# Altium footprint library L32.PcbLib: 15 footprints
Each footprint in its own frame and in the unit in brackets; x right, y up, seen from the top. Pads: shape width x height; smd on the part's side, far side on the other; paste and mask are expansions set on the pad; w line width, h text height; cw(c..) or ccw(c..) is an arc to the next point about the centre after c.
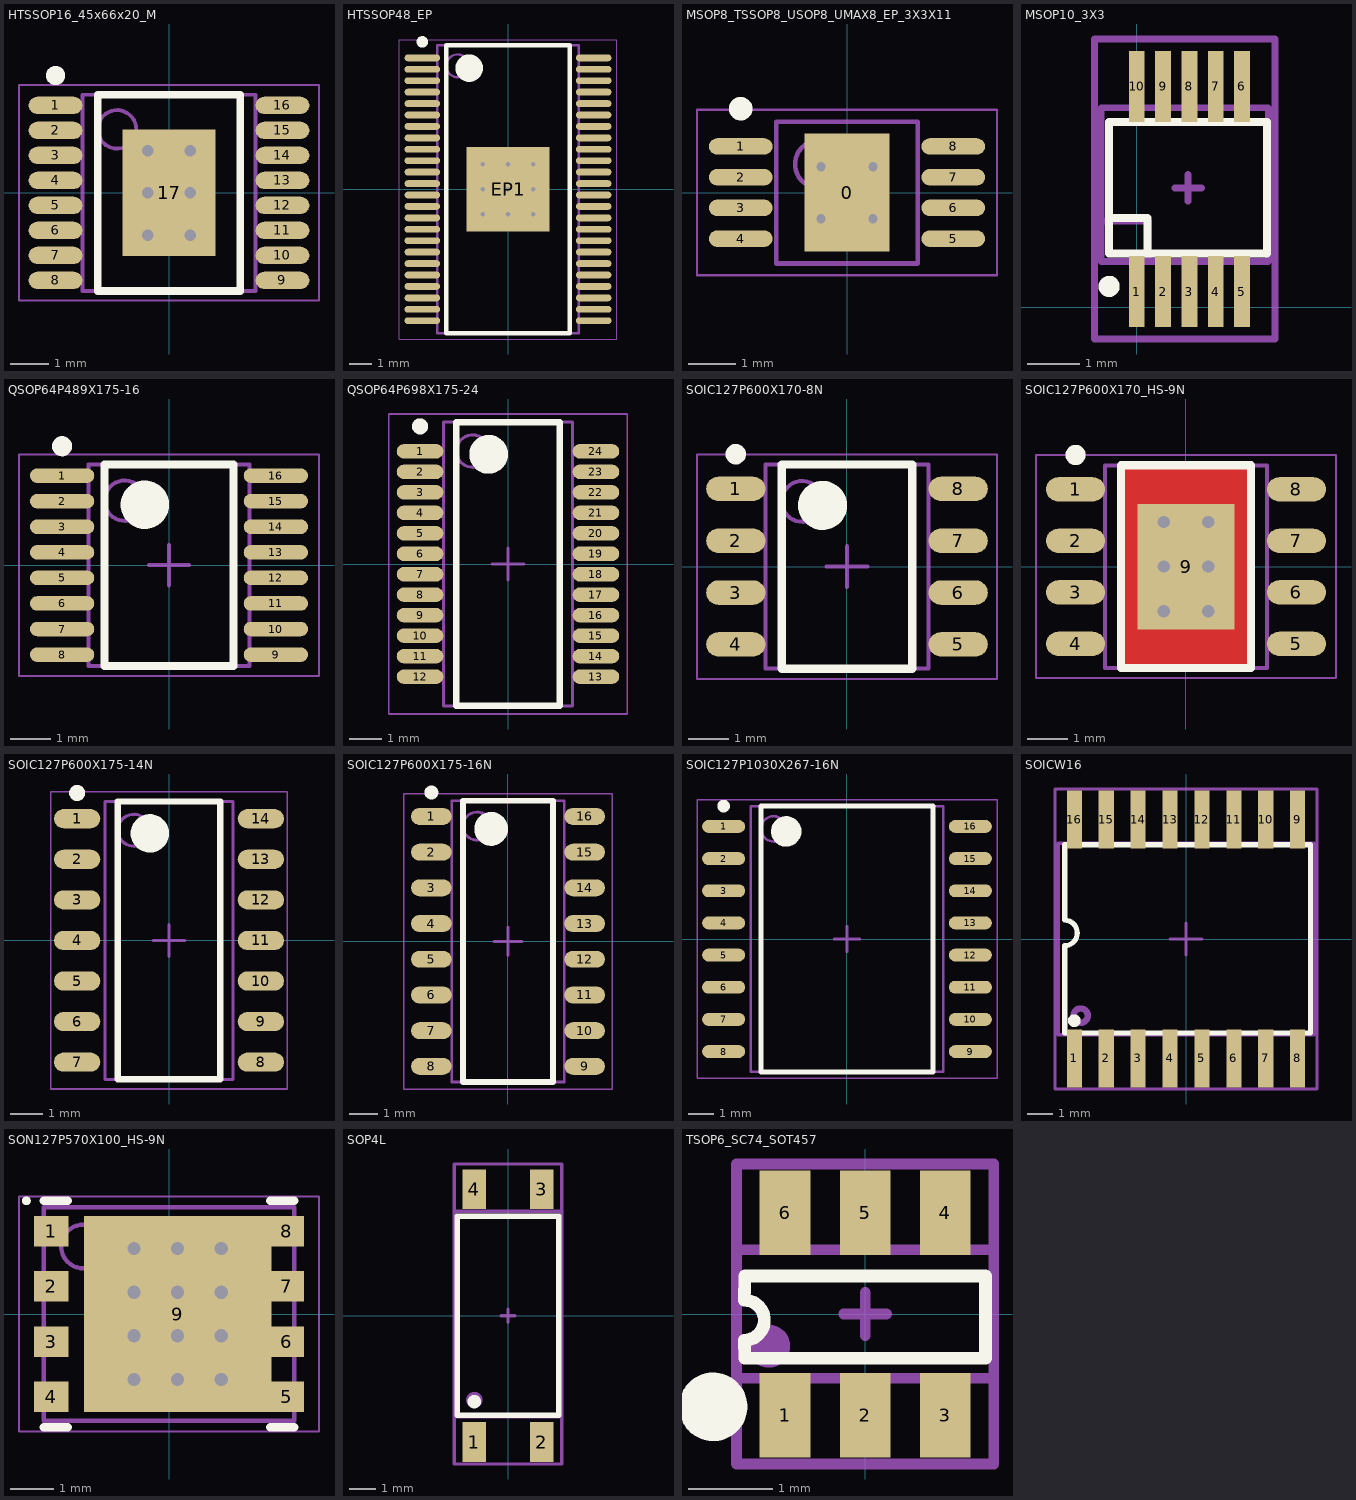
[diagram p0: the footprints below, top view; thin cyan lines are the x and y axes]

## HTSSOP16_45x66x20_M [mm] "TSOP, 16-Leads, Body 5,00x4,40mm, Pitch 0,65mm, Thermal Pad 3,29x2,41mm, IPC Medium Density"
height 1.2
pads (17):
  oval 1.4x0.45 smd: 1(-2.95,2.275) 2(-2.95,1.625) 3(-2.95,0.975) 4(-2.95,0.325) 5(-2.95,-0.325) 6(-2.95,-0.975) 7(-2.95,-1.625) 8(-2.95,-2.275) 9(2.95,-2.275) 10(2.95,-1.625) 11(2.95,-0.975) 12(2.95,-0.325) 13(2.95,0.325) 14(2.95,0.975) 15(2.95,1.625) 16(2.95,2.275)
  rect 2.41x3.29 smd: 17(0,0)
via 0.55,-1.1 diameter 0.8 hole 0.3
via -0.55,-1.1 diameter 0.8 hole 0.3
via 0.55,0 diameter 0.8 hole 0.3
via -0.55,0 diameter 0.8 hole 0.3
via 0.55,1.1 diameter 0.8 hole 0.3
via -0.55,1.1 diameter 0.8 hole 0.3
Top Overlay:
  circle w0.25: c-2.95,3.05 r0.125
  lines w0.2: -1.85,-2.55 1.85,-2.55 1.85,2.55 -1.85,2.55 -1.85,-2.55
Mechanical 13:
  circle w0.1: c-1.35,1.65 r0.5
  lines w0.1: -2.25,-2.55 2.25,-2.55 2.25,2.55 -2.25,2.55 -2.25,-2.55
Mechanical 15:
  lines w0.05: -3.9,-2.8 3.9,-2.8 3.9,2.8 -3.9,2.8 -3.9,-2.8
  lines w0.1: -0.5,0 0.5,0 ; 0,-0.5 0,0.5
Mechanical 17:
  text "'.Designator'" at -1.143,-0.254 h0.64
Mechanical 19:
  text "'.Comment'" at -1.016,-0.254 h0.64
3D body "TSSOP65P640X120-16N.STEP": height 1.2, standoff 0, extent -3.275,-2.583 3.225,2.517

## HTSSOP48_EP [mm] "TSSOP, 48-Leads, Body 12.50x6.10mm, Pitch 0.50mm, Thermal Pad 3.70x3.65mm, IPC Medium Density"
height 1.2
pads (49):
  oval 1.55x0.3 smd: 1(-3.75,5.75) 2(-3.75,5.25) 3(-3.75,4.75) 4(-3.75,4.25) 5(-3.75,3.75) 6(-3.75,3.25) 7(-3.75,2.75) 8(-3.75,2.25) 9(-3.75,1.75) 10(-3.75,1.25) 11(-3.75,0.75) 12(-3.75,0.25) 13(-3.75,-0.25) 14(-3.75,-0.75) 15(-3.75,-1.25) 16(-3.75,-1.75) 17(-3.75,-2.25) 18(-3.75,-2.75) 19(-3.75,-3.25) 20(-3.75,-3.75) 21(-3.75,-4.25) 22(-3.75,-4.75) 23(-3.75,-5.25) 24(-3.75,-5.75) 25(3.75,-5.75) 26(3.75,-5.25) 27(3.75,-4.75) 28(3.75,-4.25) 29(3.75,-3.75) 30(3.75,-3.25) 31(3.75,-2.75) 32(3.75,-2.25) 33(3.75,-1.75) 34(3.75,-1.25) 35(3.75,-0.75) 36(3.75,-0.25) 37(3.75,0.25) 38(3.75,0.75) 39(3.75,1.25) 40(3.75,1.75) 41(3.75,2.25) 42(3.75,2.75) 43(3.75,3.25) 44(3.75,3.75) 45(3.75,4.25) 46(3.75,4.75) 47(3.75,5.25) 48(3.75,5.75)
  rect 3.65x3.7 smd: EP1(0,0)
via 1.1,-1.1 diameter 0.5 hole 0.2
via 0,-1.1 diameter 0.5 hole 0.2
via -1.1,-1.1 diameter 0.5 hole 0.2
via 1.1,0 diameter 0.5 hole 0.2
via 0,0 diameter 0.5 hole 0.2
via -1.1,0 diameter 0.5 hole 0.2
via 1.1,1.1 diameter 0.5 hole 0.2
via 0,1.1 diameter 0.5 hole 0.2
via -1.1,1.1 diameter 0.5 hole 0.2
Top Overlay:
  circle w0.6: c-1.7,5.3 r0.3
  circle w0.25: c-3.75,6.45 r0.125
  lines w0.2: -2.7,-6.3 2.7,-6.3 2.7,6.3 -2.7,6.3 -2.7,-6.3
Mechanical 13:
  circle w0.1: c-2.2,5.4 r0.5
  lines w0.1: -3.1,-6.3 3.1,-6.3 3.1,6.3 -3.1,6.3 -3.1,-6.3
Mechanical 15:
  lines w0.05: -4.75,-6.55 4.75,-6.55 4.75,6.55 -4.75,6.55 -4.75,-6.55
  lines w0.1: -0.5,0 0.5,0 ; 0,-0.5 0,0.5
Mechanical 17:
  text "'.Designator'" at -0.508,4.826 h0.64
Mechanical 19:
  text "'.Comment'" at -0.508,4.826 h0.64
3D body "TSSOP50P810X120_HS-49N.step": height 1.2, standoff 0, extent -4.05,-6.3 4.05,6.3

## MSOP8_TSSOP8_USOP8_UMAX8_EP_3X3X11 [mm]
height 1
pads (9):
  rect 1.8x2.5 smd: 0(0,0)
  oval 1.35x0.35 smd: 1(-2.25,0.975) 2(-2.25,0.325) 3(-2.25,-0.325) 4(-2.25,-0.975) 5(2.25,-0.975) 6(2.25,-0.325) 7(2.25,0.325) 8(2.25,0.975)
via 0.55,-0.55 diameter 0.5 hole 0.2
via -0.55,-0.55 diameter 0.5 hole 0.2
via 0.55,0.55 diameter 0.5 hole 0.2
via -0.55,0.55 diameter 0.5 hole 0.2
Top Overlay:
  circle w0.25: c-2.25,1.775 r0.125
Mechanical 13:
  circle w0.1: c-0.6,0.6 r0.5
  lines w0.1: -1.5,-1.5 1.5,-1.5 1.5,1.5 -1.5,1.5 -1.5,-1.5
Mechanical 15:
  lines w0.05: -3.175,-1.75 3.175,-1.75 3.175,1.75 -3.175,1.75 -3.175,-1.75
  lines w0.1: -0.5,0 0.5,0 ; 0,-0.5 0,0.5
Mechanical 17:
  text "'.Designator'" at -2.667,0.508 h0.64
Mechanical 19:
  text "'.Comment'" at -2.667,0.508 h0.64
3D body: height 1, standoff 1, extent -1.5,-1.5 1.5,1.5
3D body "SW3dPS-uMAX8.STEP": height 0.95, standoff 0, extent -2.5,-1.476 2.5,1.524

## MSOP10_3X3 [mm]
pads (10):
  rect 0.3x1.35 smd: 1(0,0.3) 2(0.5,0.3) 3(1,0.3) 4(1.5,0.3) 5(2,0.3) 6(2,4.2) 7(1.5,4.2) 8(1,4.2) 9(0.5,4.2) 10(0,4.2)
Top Overlay:
  circle w0.2: c-0.525,0.4 r0.1
  lines w0.152: -0.525,1.7 0.2,1.7 0.2,1.025 ; -0.525,1.025 -0.525,3.525 -0.2,3.525 2.475,3.525 2.475,1.025 -0.525,1.025
Mechanical 13:
  lines w0.127: -0.676,1.635 0.213,1.635 0.213,0.873 ; -0.676,0.873 2.499,0.873 2.499,3.794 -0.549,3.794 -0.676,3.794 -0.676,0.873
Mechanical 15:
  lines w0.127: 0.721,2.27 1.229,2.27 ; 0.975,2.016 0.975,2.524 ; -0.803,-0.6 -0.803,5.1 2.626,5.1 2.626,-0.6 -0.803,-0.6
Mechanical 17:
  text "'.Designator'" at -0.803,1.889 h0.51
Mechanical 19:
  text "'.Comment'" at -0.803,1.889 h0.51
3D body "User Library-msop-10.step": height 1.14, standoff -0.01, extent -0.499,-0.185 2.501,4.715

## QSOP64P489X175-16 [mm] "SOP, 16-Leads, Body 4.89x3.90mm, Pitch 0.64mm, IPC Medium Density"
height 1.75
pads (16):
  oval 1.6x0.36 smd mask+0.05: 1(-2.655,2.222) 2(-2.655,1.587) 3(-2.655,0.953) 4(-2.655,0.318) 5(-2.655,-0.318) 6(-2.655,-0.953) 7(-2.655,-1.587) 8(-2.655,-2.222) 9(2.655,-2.222) 10(2.655,-1.587) 11(2.655,-0.953) 12(2.655,-0.318) 13(2.655,0.318) 14(2.655,0.953) 15(2.655,1.587) 16(2.655,2.222)
Top Overlay:
  circle w0.6: c-0.6,1.5 r0.3
  circle w0.25: c-2.655,2.953 r0.125
  lines w0.2: -1.6,-2.5 1.6,-2.5 1.6,2.5 -1.6,2.5 -1.6,-2.5
Mechanical 13:
  circle w0.1: c-1.1,1.6 r0.5
  lines w0.1: -2,-2.5 2,-2.5 2,2.5 -2,2.5 -2,-2.5
Mechanical 15:
  lines w0.05: -3.725,-2.75 3.725,-2.75 3.725,2.75 -3.725,2.75 -3.725,-2.75
  lines w0.1: -0.5,0 0.5,0 ; 0,-0.5 0,0.5
Mechanical 17:
  text "'.Designator'" at -0.127,2.032 h0.35
3D body "QSOP16.step": height 1.75, standoff 0, extent -3.01,-2.5 3.01,2.5

## QSOP64P698X175-24 [mm] "QSOP24 0.64mm pitch"
height 1.75
pads (24):
  oval 1.45x0.45 smd mask+0.05: 1(-2.725,3.492) 2(-2.725,2.857) 3(-2.725,2.222) 4(-2.725,1.587) 5(-2.725,0.953) 6(-2.725,0.318) 7(-2.725,-0.318) 8(-2.725,-0.953) 9(-2.725,-1.587) 10(-2.725,-2.222) 11(-2.725,-2.857) 12(-2.725,-3.492) 13(2.725,-3.492) 14(2.725,-2.857) 15(2.725,-2.222) 16(2.725,-1.587) 17(2.725,-0.953) 18(2.725,-0.318) 19(2.725,0.318) 20(2.725,0.953) 21(2.725,1.587) 22(2.725,2.222) 23(2.725,2.857) 24(2.725,3.492)
Top Overlay:
  circle w0.6: c-0.6,3.4 r0.3
  circle w0.25: c-2.725,4.267 r0.125
  lines w0.2: -1.6,-4.4 1.6,-4.4 1.6,4.4 -1.6,4.4 -1.6,-4.4
Mechanical 13:
  circle w0.1: c-1.1,3.5 r0.5
  lines w0.1: -2,-4.4 2,-4.4 2,4.4 -2,4.4 -2,-4.4
Mechanical 15:
  lines w0.05: -3.7,-4.65 3.7,-4.65 3.7,4.65 -3.7,4.65 -3.7,-4.65
  lines w0.1: -0.5,0 0.5,0 ; 0,-0.5 0,0.5
Mechanical 17:
  text "'.Designator'" at -2.2,-0.9 h0.64
Mechanical 19:
  text "'.Comment'" at -2.2,-0.9 h0.64
3D body "qsop24.stp": height 1.73, standoff 0, extent -3.095,-4.375 3.095,4.375

## SOIC127P600X170-8N [mm] "SOIC, 8-Leads, Body 4.90x3.90mm, Pitch 1.27mm, IPC Medium Density"
height 1.7
pads (8):
  oval 1.45x0.6 smd: 1(-2.725,1.905) 2(-2.725,0.635) 3(-2.725,-0.635) 4(-2.725,-1.905) 5(2.725,-1.905) 6(2.725,-0.635) 7(2.725,0.635) 8(2.725,1.905)
Top Overlay:
  circle w0.6: c-0.6,1.5 r0.3
  circle w0.25: c-2.725,2.755 r0.125
  lines w0.2: -1.6,-2.5 1.6,-2.5 1.6,2.5 -1.6,2.5 -1.6,-2.5
Mechanical 2:
  circle w0.1: c-1.1,1.6 r0.5
  lines w0.1: -2,-2.5 -2,2.5 2,2.5 2,-2.5 -2,-2.5
Mechanical 4:
  lines w0.05: -3.675,-2.75 -3.675,2.75 3.675,2.75 3.675,-2.75 -3.675,-2.75
  lines w0.1: -0.5,0 0.5,0 ; 0,-0.5 0,0.5
3D body "SOIC127P600X170-8N.step": height 1.7, standoff 0, extent -3,-2.5 3,2.5

## SOIC127P600X170_HS-9N [mm] "SOIC, 8-Leads, Body 4.90x3.90mm, Pitch 1.27mm, Thermal Pad 3.10x2.40mm, IPC Medium Density"
height 1.7
pads (9):
  oval 1.45x0.6 smd: 1(-2.725,1.905) 2(-2.725,0.635) 3(-2.725,-0.635) 4(-2.725,-1.905) 5(2.725,-1.905) 6(2.725,-0.635) 7(2.725,0.635) 8(2.725,1.905)
  rect 2.4x3.1 smd: 9(0,0)
via 0.55,-1.1 diameter 0.6 hole 0.3
via -0.55,-1.1 diameter 0.6 hole 0.3
via 0.55,0 diameter 0.6 hole 0.3
via -0.55,0 diameter 0.6 hole 0.3
via 0.55,1.1 diameter 0.6 hole 0.3
via -0.55,1.1 diameter 0.6 hole 0.3
Top Layer:
  rectangle: -1.651,-2.54 1.524,2.54
Top Overlay:
  circle w0.25: c-2.725,2.755 r0.125
  lines w0.2: -1.6,-2.5 1.6,-2.5 1.6,2.5 -1.6,2.5 -1.6,-2.5
Mechanical 2:
  circle w0.1: c-1.1,1.6 r0.5
  lines w0.1: -2,-2.5 2,-2.5 2,2.5 -2,2.5 -2,-2.5
Mechanical 4:
  lines w0.05: -3.7,-2.75 3.7,-2.75 3.7,2.75 -3.7,2.75 -3.7,-2.75
  lines w0.1: -0.5,0 0.5,0 ; 0,-0.5 0,0.5
3D body "SOIC127P600X170_HS-9N.step": height 1.7, standoff 0, extent -3,-2.5 3,2.5

## SOIC127P600X175-14N [mm] "SOIC, 14-Leads, Body 8.61x3.90mm, Pitch 1.27mm, IPC Medium Density"
height 1.75
pads (14):
  oval 1.45x0.6 smd: 1(-2.875,3.81) 2(-2.875,2.54) 3(-2.875,1.27) 4(-2.875,0) 5(-2.875,-1.27) 6(-2.875,-2.54) 7(-2.875,-3.81) 8(2.875,-3.81) 9(2.875,-2.54) 10(2.875,-1.27) 11(2.875,0) 12(2.875,1.27) 13(2.875,2.54) 14(2.875,3.81)
Top Overlay:
  circle w0.6: c-0.6,3.35 r0.3
  circle w0.25: c-2.875,4.615 r0.125
  lines w0.2: -1.6,-4.35 1.6,-4.35 1.6,4.35 -1.6,4.35 -1.6,-4.35
Mechanical 13:
  circle w0.1: c-1.1,3.45 r0.5
  lines w0.1: -2,-4.35 2,-4.35 2,4.35 -2,4.35 -2,-4.35
Mechanical 15:
  lines w0.05: -3.7,-4.65 3.7,-4.65 3.7,4.65 -3.7,4.65 -3.7,-4.65
  lines w0.1: -0.5,0 0.5,0 ; 0,-0.5 0,0.5
3D body "SOIC127P600X175-14N.step": height 1.75, standoff 0, extent -3,-4.35 3,4.35

## SOIC127P600X175-16N [mm] "SOIC, 16-Leads, Body 9.90x3.90mm, Pitch 1.27mm, IPC Medium Density"
height 1.75
pads (16):
  oval 1.45x0.6 smd: 1(-2.725,4.445) 2(-2.725,3.175) 3(-2.725,1.905) 4(-2.725,0.635) 5(-2.725,-0.635) 6(-2.725,-1.905) 7(-2.725,-3.175) 8(-2.725,-4.445) 9(2.725,-4.445) 10(2.725,-3.175) 11(2.725,-1.905) 12(2.725,-0.635) 13(2.725,0.635) 14(2.725,1.905) 15(2.725,3.175) 16(2.725,4.445)
Top Overlay:
  circle w0.25: c-2.725,5.295 r0.125
  circle w0.6: c-0.6,4 r0.3
  lines w0.2: -1.6,-5 -1.6,5 1.6,5 1.6,-5 -1.6,-5
Mechanical 13:
  circle w0.1: c-1.1,4.1 r0.5
  lines w0.1: -2,-5 -2,5 2,5 2,-5 -2,-5
Mechanical 15:
  lines w0.05: -3.7,-5.25 -3.7,5.25 3.7,5.25 3.7,-5.25 -3.7,-5.25
  lines w0.1: -0.5,0 0.5,0 ; 0,-0.5 0,0.5
3D body "SOIC127P600X175-16N.step": height 1.75, standoff 0, extent -3,-5 3,5

## SOIC127P1030X267-16N [mm] "SOIC, 16-Leads, Body 10.29x7.51mm, Pitch 1.27mm, IPC Medium Density"
height 2.67
pads (16):
  oval 1.7x0.51 smd: 1(-4.875,4.445) 2(-4.875,3.175) 3(-4.875,1.905) 4(-4.875,0.635) 5(-4.875,-0.635) 6(-4.875,-1.905) 7(-4.875,-3.175) 8(-4.875,-4.445) 9(4.875,-4.445) 10(4.875,-3.175) 11(4.875,-1.905) 12(4.875,-0.635) 13(4.875,0.635) 14(4.875,1.905) 15(4.875,3.175) 16(4.875,4.445)
Top Overlay:
  circle w0.25: c-4.875,5.25 r0.125
  circle w0.6: c-2.4,4.25 r0.3
  lines w0.2: -3.4,-5.25 -3.4,5.25 3.4,5.25 3.4,-5.25 -3.4,-5.25
Mechanical 13:
  circle w0.1: c-2.9,4.35 r0.5
  lines w0.1: -3.8,-5.25 -3.8,5.25 3.8,5.25 3.8,-5.25 -3.8,-5.25
Mechanical 15:
  lines w0.05: -5.925,-5.5 -5.925,5.5 5.925,5.5 5.925,-5.5 -5.925,-5.5
  lines w0.1: -0.5,0 0.5,0 ; 0,-0.5 0,0.5
3D body "SOIC127P1030X267-16N.step": height 2.67, standoff 0, extent -5.16,-5.25 5.16,5.25

## SOICW16 [mm]
pads (16):
  rect 0.6x2.3 smd: 1(-4.445,-4.75) 2(-3.175,-4.75) 3(-1.905,-4.75) 4(-0.635,-4.75) 5(0.635,-4.75) 6(1.905,-4.75) 7(3.175,-4.75) 8(4.445,-4.75) 9(4.445,4.75) 10(3.175,4.75) 11(1.905,4.75) 12(0.635,4.75) 13(-0.635,4.75) 14(-1.905,4.75) 15(-3.175,4.75) 16(-4.445,4.75)
Top Overlay:
  circle w0.254: c-4.445,-3.25 r0.127
  lines w0.203: -4.826,-0.266 ccw(c-4.834,0.242) -4.826,0.75 -4.826,3.75 4.953,3.75 4.953,-3.734 -4.826,-3.734 -4.826,-0.258
Mechanical 13:
  circle w0.254: c-4.191,-3.048 r0.284
  lines w0.127: -5.08,-3.81 5.08,-3.81 5.08,3.81 -5.08,3.81 -5.08,-3.81
Mechanical 15:
  lines w0.127: -0.635,0 0.635,0 ; 0,-0.635 0,0.635 ; -5.207,-5.969 -5.207,5.969 5.207,5.969 5.207,-5.969 -5.207,-5.969
Mechanical 17:
  text "'.Designator'" at -4.191,-0.254 h0.64
Mechanical 19:
  text "'.Comment'" at -4.191,-0.254 h0.64
3D body "User Library-so16w.step": height 3.5, standoff 0, extent -5.1,-5.201 5.1,5.099

## SON127P570X100_HS-9N [mm] "SON, 8-Leads, Body 4,85x5,72mm, Pitch 1,27mm, Thermal Pad 3,82x3,48mm, IPC Medium Density"
height 1
pads (9):
  rect 0.8x0.7 smd: 1(-2.705,1.905) 2(-2.705,0.635) 3(-2.705,-0.635) 4(-2.705,-1.905) 5(2.705,-1.905) 6(2.705,-0.635) 7(2.705,0.635) 8(2.705,1.905)
  rect 4.3x4.5 smd paste-1.74: 9(0.2,0)
via 1.2,-1.5 diameter 0.6 hole 0.3
via 0.2,-1.5 diameter 0.6 hole 0.3
via -0.8,-1.5 diameter 0.6 hole 0.3
via 1.2,-0.5 diameter 0.6 hole 0.3
via 0.2,-0.5 diameter 0.6 hole 0.3
via -0.8,-0.5 diameter 0.6 hole 0.3
via 1.2,0.5 diameter 0.6 hole 0.3
via 0.2,0.5 diameter 0.6 hole 0.3
via -0.8,0.5 diameter 0.6 hole 0.3
via 1.2,1.5 diameter 0.6 hole 0.3
via 0.2,1.5 diameter 0.6 hole 0.3
via -0.8,1.5 diameter 0.6 hole 0.3
Top Overlay:
  circle w0.1: c-3.275,2.6 r0.05
  lines w0.2: -2.875,-2.6 -2.33,-2.6 ; -2.875,2.6 -2.33,2.6 ; 2.33,-2.6 2.875,-2.6 ; 2.33,2.6 2.875,2.6
Top Paste:
  rectangle: 0.68,-1.805 1.64,-0.735
  rectangle: 0.68,-0.535 1.64,0.535
  rectangle: 0.68,0.735 1.64,1.805
  rectangle: -0.48,-1.805 0.48,-0.735
  rectangle: -0.48,-0.535 0.48,0.535
  rectangle: -0.48,0.735 0.48,1.805
  rectangle: -1.64,-1.805 -0.68,-0.735
  rectangle: -1.64,-0.535 -0.68,0.535
  rectangle: -1.64,0.735 -0.68,1.805
Mechanical 2:
  circle w0.1: c-1.975,1.55 r0.5
  lines w0.1: -2.875,-2.45 2.875,-2.45 2.875,2.45 -2.875,2.45 -2.875,-2.45
Mechanical 4:
  lines w0.05: -3.445,-2.7 3.445,-2.7 3.445,2.7 -3.445,2.7 -3.445,-2.7
  lines w0.1: -0.5,0 0.5,0 ; 0,-0.5 0,0.5
3D body "SON127P570X100_HS-9N.step": height 1, standoff 0, extent -3.125,-2.45 3.125,2.45

## SOP4L [mm]
pads (4):
  rect 0.9x1.5 smd: 1(-1.27,-4.763) 2(1.27,-4.763) 3(1.27,4.763) 4(-1.27,4.763)
Top Overlay:
  circle w0.254: c-1.27,-3.238 r0.127
  lines w0.203: -1.905,-3.746 -1.905,3.746 1.905,3.746 1.905,-3.746 -1.905,-3.746
Mechanical 13:
  circle w0.254: c-1.27,-3.175 r0.18
  lines w0.127: -2.032,-3.81 -2.032,3.937 2.032,3.937 2.032,-3.81 -2.032,-3.81
Mechanical 15:
  lines w0.127: -0.254,0 0.254,0 ; 0,-0.254 0,0.254 ; -2.032,-5.588 2.032,-5.588 2.032,5.715 -2.032,5.715 -2.032,5.588 -2.032,-5.588
Mechanical 17:
  text "'.Designator'" at 0.381,-3.683 h0.64
3D body "User Library-TCLT100-SOP4L.step": height 2.1, standoff -0.02, extent -2.05,-5.036 2.05,5.163

## TSOP6_SC74_SOT457 [mm]
pads (6):
  rect 0.6x1 smd: 1(-0.95,-1.2) 2(0,-1.2) 3(0.95,-1.2) 4(0.95,1.2) 5(0,1.2) 6(-0.95,1.2)
Top Overlay:
  circle w0.508: c-1.802,-1.1 r0.152
  lines w0.152: -1.433,-0.311 ccw(c-1.433,-0.074) -1.433,0.164 -1.425,0.45 1.425,0.45 1.425,-0.525 -1.425,-0.525 -1.433,-0.311
Mechanical 13:
  circle w0.254: c-1.143,-0.381 r0.127
  lines w0.127: -1.524,-0.762 -1.524,0.762 1.524,0.762 1.524,-0.762 -1.524,-0.762
Mechanical 15:
  lines w0.127: -0.254,0 0.254,0 ; 0,-0.254 0,0.254 ; -1.524,-1.778 1.524,-1.778 1.524,1.778 -1.524,1.778 -1.524,-1.778
Mechanical 17:
  text "'.Designator'" at -1.778,0 h0.64
Mechanical 19:
  text "'.Comment'" at -1.778,0 h0.64
3D body "TSOP6.step": height 1, standoff 0, extent -1.51,-1.356 1.49,1.344